# EAGLE library part ADXL202 (library ic)
ADXL202E: Dual-axis accelerometer (Analog Devices) ±2g, 6kHz, PWM output
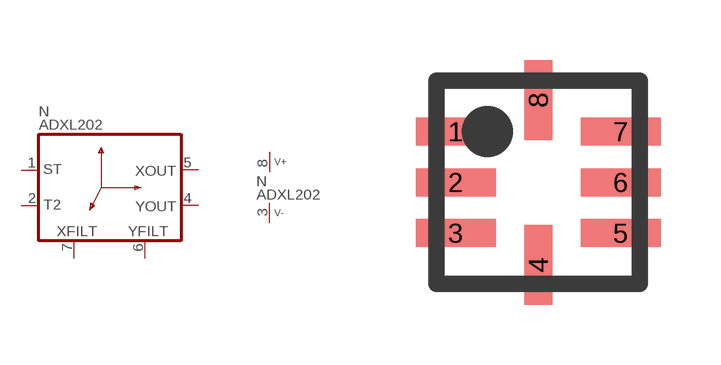
[diagram p118: symbol with the pads of LGA8; footprint LGA8]

Designator prefix N; gates A=ADXL202 P=V+-

## ADXL202  [LGA8]
1  A:ST  in
2  A:T2  in
3  P:V-  pwr
4  A:YOUT  out
5  A:XOUT  out
6  A:YFILT
7  A:XFILT
8  P:V+  pwr

## Footprint LGA8 (pad centres in mm)
smd 2 x 0.7: 1 -2.064,1.27; 2 -2.064,0; 3 -2.064,-1.27; 5 2.064,-1.27; 6 2.064,0; 7 2.064,1.27
smd 0.7 x 2: 4 0,-2.064; 8 0,2.064